# Altium schematic symbol library VLMS1500-GS08.SchLib: 2 symbols
Pins are listed as number, name and electrical type; pins without a type are passive.

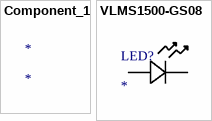
[diagram p0: symbols Component_1 to VLMS1500-GS08]

## Component_1
designator *

## VLMS1500-GS08
designator LED?
No Description Available; Mfr_Name: Vishay
footprint LED_00-GS08_VIS
pins: 1, 2